# Altium schematic symbol library SCH - INTERFACE - INTERSIL ISL83490.SCHLIB: 1 symbol
Pins are listed as number, name and electrical type; pins without a type are passive.

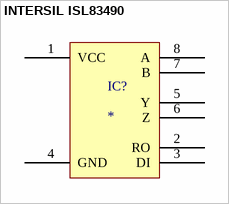
[diagram p0: symbol INTERSIL ISL83490]

## INTERSIL ISL83490
designator IC?
pins: 1 VCC, 2 RO, 3 DI, 4 GND, 5 Y, 6 Z, 7 B, 8 A